# EAGLE library part HMC194MS8 (library hittite)
GaAs MMIC SPDT SWITCH
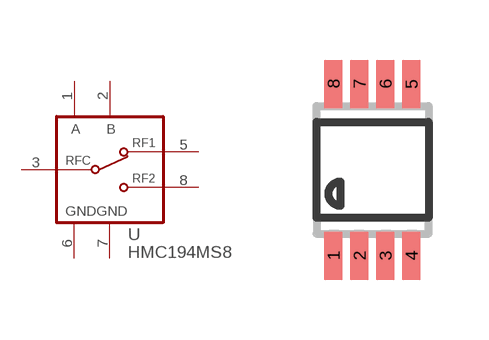
[diagram p0: symbol with the pads of MS8E; footprint MS8E]

Designator prefix U; gates A=RFS_SPDT P=RFS_CTRL

## HMC194MS8  [MS8E]
1  P:A  in
2  P:B  in
3  A:RFC
5  A:RF1
6  P:GND1  pwr
7  P:GND2  pwr
8  A:RF2

## Footprint MS8E (pad centres in mm)
MS8E - Mini Small Outline Package
smd 0.45 x 1.2: 1 -0.976,-2.15; 2 -0.326,-2.15; 3 0.324,-2.15; 4 0.974,-2.15; 5 0.974,2.15; 6 0.324,2.15; 7 -0.326,2.15; 8 -0.976,2.15